# Altium integrated library Chip Resistor - Surface Mount.IntLib: 27 symbols
Pins are listed as number, name and electrical type; pins without a type are passive.

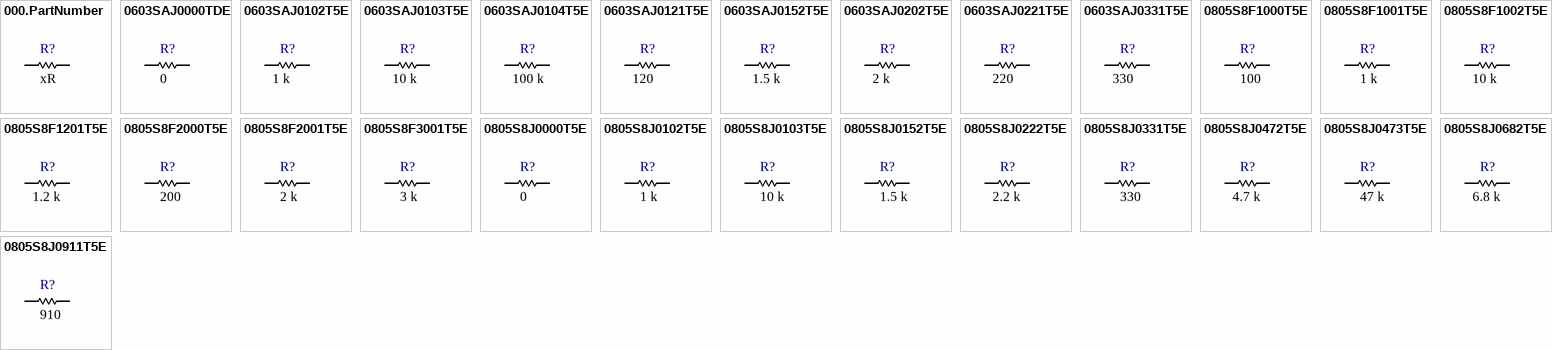
[diagram p0: symbols 000.PartNumber to 0805S8J0911T5E]

## 000.PartNumber
designator R?  Resistance: xR  (hidden comment: *)
Digikey Description; Manufacturer: *; Series: *; Package: *; Tolerance: *; Power (Watts): *; Composition: *; Features: *; Temperature Coefficient: *; Operating Temperature: *; Package / Case: *; Ratings: *; Supplier Device Package: *; Size / Dimension: *; Height - Seated (Max): *; Failure Rate: *; Number of Terminations: *; Ozdisan Link: *; Digikey Link: *; Farnell TR Link: *; Mouser Link: *
pins: 1, 2

## 0603SAJ0000TDE
designator R?  Resistance: 0  (hidden comment: *)
RES SMD 0 OHM 5% 1/10W 0603; Manufacturer: Royalohm; Power (Watts): 0.1W, 1/10W; Temperature Coefficient: ±800ppm/°C; Series: -; Package: Tape & Reel (TR); Tolerance: ±5%; Composition: Thick Film; Features: General Purpose; Operating Temperature: -55°C ~ 155°C; Package / Case: 0603 (1608 Metric); Ratings: -; Supplier Device Package: 0603; Size / Dimension: 0.063" L x 0.031" W (1.60mm x 0.80mm); Height - Seated (Max): 0.022" (0.55mm); Failure Rate: -; Number of Terminations: 2; Ozdisan Link: https://ozdisan.com/pasif-komponentler/direncler/smt-smd-ve-cip-direncler/0603SAJ0000TDE; Digikey Link: -; Farnell TR Link: -; Mouser Link: -
footprint ROYALOHM_RES_0603
pins: 1, 2

## 0603SAJ0102T5E
designator R?  Resistance: 1 k  (hidden comment: *)
RES SMD 1K OHM 5% 1/10W 0603; Manufacturer: Royalohm; Power (Watts): 0.1W, 1/10W; Temperature Coefficient: ±100ppm/°C; Series: -; Package: Tape & Reel (TR); Tolerance: ±5%; Composition: Thick Film; Features: General Purpose; Operating Temperature: -55°C ~ 155°C; Package / Case: 0603 (1608 Metric); Ratings: -; Supplier Device Package: 0603; Size / Dimension: 0.063" L x 0.031" W (1.60mm x 0.80mm); Height - Seated (Max): 0.022" (0.55mm); Failure Rate: -; Number of Terminations: 2; Ozdisan Link: https://ozdisan.com/pasif-komponentler/direncler/smt-smd-ve-cip-direncler/0603SAJ0102T5E; Digikey Link: -; Farnell TR Link: -; Mouser Link: -
footprint ROYALOHM_RES_0603
pins: 1, 2

## 0603SAJ0103T5E
designator R?  Resistance: 10 k  (hidden comment: *)
RES SMD 10K OHM 5% 1/10W 0603; Manufacturer: Royalohm; Power (Watts): 0.1W, 1/10W; Temperature Coefficient: ±100ppm/°C; Series: -; Package: Tape & Reel (TR); Tolerance: ±5%; Composition: Thick Film; Features: General Purpose; Operating Temperature: -55°C ~ 155°C; Package / Case: 0603 (1608 Metric); Ratings: -; Supplier Device Package: 0603; Size / Dimension: 0.063" L x 0.031" W (1.60mm x 0.80mm); Height - Seated (Max): 0.022" (0.55mm); Failure Rate: -; Number of Terminations: 2; Ozdisan Link: https://ozdisan.com/pasif-komponentler/direncler/smt-smd-ve-cip-direncler/0603SAJ0103T5E; Digikey Link: -; Farnell TR Link: -; Mouser Link: -
footprint ROYALOHM_RES_0603
pins: 1, 2

## 0603SAJ0104T5E
designator R?  Resistance: 100 k  (hidden comment: *)
RES SMD 100K OHM 5% 1/10W 0603; Manufacturer: Royalohm; Power (Watts): 0.1W, 1/10W; Temperature Coefficient: ±100ppm/°C; Series: -; Package: Tape & Reel (TR); Tolerance: ±5%; Composition: Thick Film; Features: General Purpose; Operating Temperature: -55°C ~ 155°C; Package / Case: 0603 (1608 Metric); Ratings: -; Supplier Device Package: 0603; Size / Dimension: 0.063" L x 0.031" W (1.60mm x 0.80mm); Height - Seated (Max): 0.022" (0.55mm); Failure Rate: -; Number of Terminations: 2; Ozdisan Link: https://www.digikey.com/en/products/detail/samsung-electro-mechanics/RC1608F2103CS/3965171; Digikey Link: -; Farnell TR Link: -; Mouser Link: -
footprint ROYALOHM_RES_0603
pins: 1, 2

## 0603SAJ0121T5E
designator R?  Resistance: 120  (hidden comment: *)
RES SMD 120R OHM 5% 1/10W 0603; Manufacturer: Royalohm; Power (Watts): 0.1W, 1/10W; Temperature Coefficient: ±100ppm/°C; Series: -; Package: Tape & Reel (TR); Tolerance: ±5%; Composition: Thick Film; Features: General Purpose; Operating Temperature: -55°C ~ 155°C; Package / Case: 0603 (1608 Metric); Ratings: -; Supplier Device Package: 0603; Size / Dimension: 0.063" L x 0.031" W (1.60mm x 0.80mm); Height - Seated (Max): 0.022" (0.55mm); Failure Rate: -; Number of Terminations: 2; Ozdisan Link: https://ozdisan.com/pasif-komponentler/direncler/smt-smd-ve-cip-direncler/0603SAJ0121T5E; Digikey Link: -; Farnell TR Link: -; Mouser Link: -
footprint ROYALOHM_RES_0603
pins: 1, 2

## 0603SAJ0152T5E
designator R?  Resistance: 1.5 k  (hidden comment: *)
RES SMD 1.5K OHM 5% 1/10W 0603; Manufacturer: Royalohm; Power (Watts): 0.1W, 1/10W; Temperature Coefficient: ±100ppm/°C; Series: -; Package: Tape & Reel (TR); Tolerance: ±5%; Composition: Thick Film; Features: General Purpose; Operating Temperature: -55°C ~ 155°C; Package / Case: 0603 (1608 Metric); Ratings: -; Supplier Device Package: 0603; Size / Dimension: 0.063" L x 0.031" W (1.60mm x 0.80mm); Height - Seated (Max): 0.022" (0.55mm); Failure Rate: -; Number of Terminations: 2; Ozdisan Link: https://ozdisan.com/pasif-komponentler/direncler/smt-smd-ve-cip-direncler/0603SAJ0152T5E; Digikey Link: -; Farnell TR Link: -; Mouser Link: -
footprint ROYALOHM_RES_0603
pins: 1, 2

## 0603SAJ0202T5E
designator R?  Resistance: 2 k  (hidden comment: *)
RES SMD 2K OHM 5% 1/10W 0603; Manufacturer: Royalohm; Power (Watts): 0.1W, 1/10W; Temperature Coefficient: ±100ppm/°C; Series: -; Package: Tape & Reel (TR); Tolerance: ±5%; Composition: Thick Film; Features: General Purpose; Operating Temperature: -55°C ~ 155°C; Package / Case: 0603 (1608 Metric); Ratings: -; Supplier Device Package: 0603; Size / Dimension: 0.063" L x 0.031" W (1.60mm x 0.80mm); Height - Seated (Max): 0.022" (0.55mm); Failure Rate: -; Number of Terminations: 2; Ozdisan Link: https://ozdisan.com/pasif-komponentler/direncler/smt-smd-ve-cip-direncler/0603SAJ0202T5E; Digikey Link: -; Farnell TR Link: -; Mouser Link: -
footprint ROYALOHM_RES_0603
pins: 1, 2

## 0603SAJ0221T5E
designator R?  Resistance: 220  (hidden comment: *)
RES SMD 220R OHM 5% 1/10W 0603; Manufacturer: Royalohm; Power (Watts): 0.1W, 1/10W; Temperature Coefficient: ±100ppm/°C; Series: -; Package: Tape & Reel (TR); Tolerance: ±5%; Composition: Thick Film; Features: General Purpose; Operating Temperature: -55°C ~ 155°C; Package / Case: 0603 (1608 Metric); Ratings: -; Supplier Device Package: 0603; Size / Dimension: 0.063" L x 0.031" W (1.60mm x 0.80mm); Height - Seated (Max): 0.022" (0.55mm); Failure Rate: -; Number of Terminations: 2; Ozdisan Link: https://ozdisan.com/pasif-komponentler/direncler/smt-smd-ve-cip-direncler/0603SAJ0221T5E; Digikey Link: -; Farnell TR Link: -; Mouser Link: -
footprint ROYALOHM_RES_0603
pins: 1, 2

## 0603SAJ0331T5E
designator R?  Resistance: 330  (hidden comment: *)
RES SMD 330R OHM 5% 1/10W 0603; Manufacturer: Royalohm; Power (Watts): 0.1W, 1/10W; Temperature Coefficient: ±100ppm/°C; Series: -; Package: Tape & Reel (TR); Tolerance: ±5%; Composition: Thick Film; Features: General Purpose; Operating Temperature: -55°C ~ 155°C; Package / Case: 0603 (1608 Metric); Ratings: -; Supplier Device Package: 0603; Size / Dimension: 0.063" L x 0.031" W (1.60mm x 0.80mm); Height - Seated (Max): 0.022" (0.55mm); Failure Rate: -; Number of Terminations: 2; Ozdisan Link: https://ozdisan.com/pasif-komponentler/direncler/smt-smd-ve-cip-direncler/0603SAJ0331T5E; Digikey Link: -; Farnell TR Link: -; Mouser Link: -
footprint ROYALOHM_RES_0603
pins: 1, 2

## 0805S8F1000T5E
designator R?  Resistance: 100  (hidden comment: *)
RES SMD 100R OHM 1% 1/8W 0805; Manufacturer: Royalohm; Power (Watts): 0.125W, 1/8W; Temperature Coefficient: ±100ppm/°C; Series: -; Package: Tape & Reel (TR); Tolerance: ±1%; Composition: Thick Film; Features: General Purpose; Operating Temperature: -55°C ~ 155°C; Package / Case: 0805 (2012 Metric); Ratings: -; Supplier Device Package: 0805; Size / Dimension: 0.079" L x 0.049" W (2.00mm x 1.25mm); Height - Seated (Max): 0.022" (0.55mm); Failure Rate: -; Number of Terminations: 2; Ozdisan Link: https://ozdisan.com/pasif-komponentler/direncler/smt-smd-ve-cip-direncler/0805S8F1000T5E; Digikey Link: -; Farnell TR Link: -; Mouser Link: -
footprint ROYALOHM_RES_0805
pins: 1, 2

## 0805S8F1001T5E
designator R?  Resistance: 1 k  (hidden comment: *)
RES SMD 1K OHM 1% 1/8W 0805; Manufacturer: Royalohm; Power (Watts): 0.125W, 1/8W; Temperature Coefficient: ±100ppm/°C; Series: -; Package: Tape & Reel (TR); Tolerance: ±1%; Composition: Thick Film; Features: General Purpose; Operating Temperature: -55°C ~ 155°C; Package / Case: 0805 (2012 Metric); Ratings: -; Supplier Device Package: 0805; Size / Dimension: 0.079" L x 0.049" W (2.00mm x 1.25mm); Height - Seated (Max): 0.022" (0.55mm); Failure Rate: -; Number of Terminations: 2; Ozdisan Link: https://ozdisan.com/pasif-komponentler/direncler/smt-smd-ve-cip-direncler/0805S8F1001T5E; Digikey Link: -; Farnell TR Link: -; Mouser Link: -
footprint ROYALOHM_RES_0805
pins: 1, 2

## 0805S8F1002T5E
designator R?  Resistance: 10 k  (hidden comment: *)
RES SMD 10K OHM 1% 1/8W 0805; Manufacturer: Royalohm; Power (Watts): 0.125W, 1/8W; Temperature Coefficient: ±100ppm/°C; Series: -; Package: Tape & Reel (TR); Tolerance: ±1%; Composition: Thick Film; Features: General Purpose; Operating Temperature: -55°C ~ 155°C; Package / Case: 0805 (2012 Metric); Ratings: -; Supplier Device Package: 0805; Size / Dimension: 0.079" L x 0.049" W (2.00mm x 1.25mm); Height - Seated (Max): 0.022" (0.55mm); Failure Rate: -; Number of Terminations: 2; Ozdisan Link: https://ozdisan.com/pasif-komponentler/direncler/smt-smd-ve-cip-direncler/0805S8F1002T5E; Digikey Link: -; Farnell TR Link: -; Mouser Link: -
footprint ROYALOHM_RES_0805
pins: 1, 2

## 0805S8F1201T5E
designator R?  Resistance: 1.2 k  (hidden comment: *)
RES SMD 1.2K OHM 1% 1/8W 0805; Manufacturer: Royalohm; Power (Watts): 0.125W, 1/8W; Temperature Coefficient: ±100ppm/°C; Series: -; Package: Tape & Reel (TR); Tolerance: ±1%; Composition: Thick Film; Features: General Purpose; Operating Temperature: -55°C ~ 155°C; Package / Case: 0805 (2012 Metric); Ratings: -; Supplier Device Package: 0805; Size / Dimension: 0.079" L x 0.049" W (2.00mm x 1.25mm); Height - Seated (Max): 0.022" (0.55mm); Failure Rate: -; Number of Terminations: 2; Ozdisan Link: https://ozdisan.com/pasif-komponentler/direncler/smt-smd-ve-cip-direncler/0805S8F1201T5E; Digikey Link: -; Farnell TR Link: -; Mouser Link: -
footprint ROYALOHM_RES_0805
pins: 1, 2

## 0805S8F2000T5E
designator R?  Resistance: 200  (hidden comment: *)
RES SMD 200R OHM 1% 1/8W 0805; Manufacturer: Royalohm; Power (Watts): 0.125W, 1/8W; Temperature Coefficient: ±100ppm/°C; Series: -; Package: Tape & Reel (TR); Tolerance: ±1%; Composition: Thick Film; Features: General Purpose; Operating Temperature: -55°C ~ 155°C; Package / Case: 0805 (2012 Metric); Ratings: -; Supplier Device Package: 0805; Size / Dimension: 0.079" L x 0.049" W (2.00mm x 1.25mm); Height - Seated (Max): 0.022" (0.55mm); Failure Rate: -; Number of Terminations: 2; Ozdisan Link: https://ozdisan.com/pasif-komponentler/direncler/smt-smd-ve-cip-direncler/0805S8F2000T5E; Digikey Link: -; Farnell TR Link: -; Mouser Link: -
footprint ROYALOHM_RES_0805
pins: 1, 2

## 0805S8F2001T5E
designator R?  Resistance: 2 k  (hidden comment: *)
RES SMD 2K OHM 1% 1/8W 0805; Manufacturer: Royalohm; Power (Watts): 0.125W, 1/8W; Temperature Coefficient: ±100ppm/°C; Series: -; Package: Tape & Reel (TR); Tolerance: ±1%; Composition: Thick Film; Features: General Purpose; Operating Temperature: -55°C ~ 155°C; Package / Case: 0805 (2012 Metric); Ratings: -; Supplier Device Package: 0805; Size / Dimension: 0.079" L x 0.049" W (2.00mm x 1.25mm); Height - Seated (Max): 0.022" (0.55mm); Failure Rate: -; Number of Terminations: 2; Ozdisan Link: https://ozdisan.com/pasif-komponentler/direncler/smt-smd-ve-cip-direncler/0805S8F2001T5E; Digikey Link: -; Farnell TR Link: -; Mouser Link: -
footprint ROYALOHM_RES_0805
pins: 1, 2

## 0805S8F3001T5E
designator R?  Resistance: 3 k  (hidden comment: *)
RES SMD 3K OHM 1% 1/8W 0805; Manufacturer: Royalohm; Power (Watts): 0.125W, 1/8W; Temperature Coefficient: ±100ppm/°C; Series: -; Package: Tape & Reel (TR); Tolerance: ±1%; Composition: Thick Film; Features: General Purpose; Operating Temperature: -55°C ~ 155°C; Package / Case: 0805 (2012 Metric); Ratings: -; Supplier Device Package: 0805; Size / Dimension: 0.079" L x 0.049" W (2.00mm x 1.25mm); Height - Seated (Max): 0.022" (0.55mm); Failure Rate: -; Number of Terminations: 2; Ozdisan Link: https://ozdisan.com/pasif-komponentler/direncler/smt-smd-ve-cip-direncler/0805S8F3001T5E; Digikey Link: -; Farnell TR Link: -; Mouser Link: -
footprint ROYALOHM_RES_0805
pins: 1, 2

## 0805S8J0000T5E
designator R?  Resistance: 0  (hidden comment: *)
RES SMD 0 OHM 5% 1/8W 0805; Manufacturer: Royalohm; Power (Watts): 0.125W, 1/8W; Temperature Coefficient: ±800ppm/°C; Series: -; Package: Tape & Reel (TR); Tolerance: ±5%; Composition: Thick Film; Features: General Purpose; Operating Temperature: -55°C ~ 155°C; Package / Case: 0805 (2012 Metric); Ratings: -; Supplier Device Package: 0805; Size / Dimension: 0.079" L x 0.049" W (2.00mm x 1.25mm); Height - Seated (Max): 0.022" (0.55mm); Failure Rate: -; Number of Terminations: 2; Ozdisan Link: https://ozdisan.com/pasif-komponentler/direncler/smt-smd-ve-cip-direncler/0805S8J0000T5E; Digikey Link: -; Farnell TR Link: -; Mouser Link: -
footprint ROYALOHM_RES_0805
pins: 1, 2

## 0805S8J0102T5E
designator R?  Resistance: 1 k  (hidden comment: *)
RES SMD 1K OHM 5% 1/8W 0805; Manufacturer: Royalohm; Power (Watts): 0.125W, 1/8W; Temperature Coefficient: ±100ppm/°C; Series: -; Package: Tape & Reel (TR); Tolerance: ±5%; Composition: Thick Film; Features: General Purpose; Operating Temperature: -55°C ~ 155°C; Package / Case: 0805 (2012 Metric); Ratings: -; Supplier Device Package: 0805; Size / Dimension: 0.079" L x 0.049" W (2.00mm x 1.25mm); Height - Seated (Max): 0.022" (0.55mm); Failure Rate: -; Number of Terminations: 2; Ozdisan Link: https://ozdisan.com/pasif-komponentler/direncler/smt-smd-ve-cip-direncler/0805S8J0102T5E; Digikey Link: -; Farnell TR Link: -; Mouser Link: -
footprint ROYALOHM_RES_0805
pins: 1, 2

## 0805S8J0103T5E
designator R?  Resistance: 10 k  (hidden comment: *)
RES SMD 10K OHM 5% 1/8W 0805; Manufacturer: Royalohm; Power (Watts): 0.125W, 1/8W; Temperature Coefficient: ±100ppm/°C; Series: -; Package: Tape & Reel (TR); Tolerance: ±5%; Composition: Thick Film; Features: General Purpose; Operating Temperature: -55°C ~ 155°C; Package / Case: 0805 (2012 Metric); Ratings: -; Supplier Device Package: 0805; Size / Dimension: 0.079" L x 0.049" W (2.00mm x 1.25mm); Height - Seated (Max): 0.022" (0.55mm); Failure Rate: -; Number of Terminations: 2; Ozdisan Link: https://ozdisan.com/pasif-komponentler/direncler/smt-smd-ve-cip-direncler/0805S8J0103T5E; Digikey Link: -; Farnell TR Link: -; Mouser Link: -
footprint ROYALOHM_RES_0805
pins: 1, 2

## 0805S8J0152T5E
designator R?  Resistance: 1.5 k  (hidden comment: *)
RES SMD 1.5K OHM 5% 1/8W 0805; Manufacturer: Royalohm; Power (Watts): 0.125W, 1/8W; Temperature Coefficient: ±100ppm/°C; Series: -; Package: Tape & Reel (TR); Tolerance: ±5%; Composition: Thick Film; Features: General Purpose; Operating Temperature: -55°C ~ 155°C; Package / Case: 0805 (2012 Metric); Ratings: -; Supplier Device Package: 0805; Size / Dimension: 0.079" L x 0.049" W (2.00mm x 1.25mm); Height - Seated (Max): 0.022" (0.55mm); Failure Rate: -; Number of Terminations: 2; Ozdisan Link: https://ozdisan.com/pasif-komponentler/direncler/smt-smd-ve-cip-direncler/0805S8J0152T5E; Digikey Link: -; Farnell TR Link: -; Mouser Link: -
footprint ROYALOHM_RES_0805
pins: 1, 2

## 0805S8J0222T5E
designator R?  Resistance: 2.2 k  (hidden comment: *)
RES SMD 2.2K OHM 5% 1/8W 0805; Manufacturer: Royalohm; Power (Watts): 0.125W, 1/8W; Temperature Coefficient: ±100ppm/°C; Series: -; Package: Tape & Reel (TR); Tolerance: ±5%; Composition: Thick Film; Features: General Purpose; Operating Temperature: -55°C ~ 155°C; Package / Case: 0805 (2012 Metric); Ratings: -; Supplier Device Package: 0805; Size / Dimension: 0.079" L x 0.049" W (2.00mm x 1.25mm); Height - Seated (Max): 0.022" (0.55mm); Failure Rate: -; Number of Terminations: 2; Ozdisan Link: https://ozdisan.com/pasif-komponentler/direncler/smt-smd-ve-cip-direncler/0805S8J0222T5E; Digikey Link: -; Farnell TR Link: -; Mouser Link: -
footprint ROYALOHM_RES_0805
pins: 1, 2

## 0805S8J0331T5E
designator R?  Resistance: 330  (hidden comment: *)
RES SMD 330R OHM 5% 1/8W 0805; Manufacturer: Royalohm; Power (Watts): 0.125W, 1/8W; Temperature Coefficient: ±100ppm/°C; Series: -; Package: Tape & Reel (TR); Tolerance: ±5%; Composition: Thick Film; Features: General Purpose; Operating Temperature: -55°C ~ 155°C; Package / Case: 0805 (2012 Metric); Ratings: -; Supplier Device Package: 0805; Size / Dimension: 0.079" L x 0.049" W (2.00mm x 1.25mm); Height - Seated (Max): 0.022" (0.55mm); Failure Rate: -; Number of Terminations: 2; Ozdisan Link: https://ozdisan.com/pasif-komponentler/direncler/smt-smd-ve-cip-direncler/0805S8J0331T5E; Digikey Link: -; Farnell TR Link: -; Mouser Link: -
footprint ROYALOHM_RES_0805
pins: 1, 2

## 0805S8J0472T5E
designator R?  Resistance: 4.7 k  (hidden comment: *)
RES SMD 4.7K OHM 5% 1/8W 0805; Manufacturer: Royalohm; Power (Watts): 0.125W, 1/8W; Temperature Coefficient: ±100ppm/°C; Series: -; Package: Tape & Reel (TR); Tolerance: ±5%; Composition: Thick Film; Features: General Purpose; Operating Temperature: -55°C ~ 155°C; Package / Case: 0805 (2012 Metric); Ratings: -; Supplier Device Package: 0805; Size / Dimension: 0.079" L x 0.049" W (2.00mm x 1.25mm); Height - Seated (Max): 0.022" (0.55mm); Failure Rate: -; Number of Terminations: 2; Ozdisan Link: https://ozdisan.com/pasif-komponentler/direncler/smt-smd-ve-cip-direncler/0805S8J0472T5E; Digikey Link: -; Farnell TR Link: -; Mouser Link: -
footprint ROYALOHM_RES_0805
pins: 1, 2

## 0805S8J0473T5E
designator R?  Resistance: 47 k  (hidden comment: *)
RES SMD 47K OHM 5% 1/8W 0805; Manufacturer: Royalohm; Power (Watts): 0.125W, 1/8W; Temperature Coefficient: ±100ppm/°C; Series: -; Package: Tape & Reel (TR); Tolerance: ±5%; Composition: Thick Film; Features: General Purpose; Operating Temperature: -55°C ~ 155°C; Package / Case: 0805 (2012 Metric); Ratings: -; Supplier Device Package: 0805; Size / Dimension: 0.079" L x 0.049" W (2.00mm x 1.25mm); Height - Seated (Max): 0.022" (0.55mm); Failure Rate: -; Number of Terminations: 2; Ozdisan Link: https://ozdisan.com/pasif-komponentler/direncler/smt-smd-ve-cip-direncler/0805S8J0473T5E; Digikey Link: -; Farnell TR Link: -; Mouser Link: -
footprint ROYALOHM_RES_0805
pins: 1, 2

## 0805S8J0682T5E
designator R?  Resistance: 6.8 k  (hidden comment: *)
RES SMD 6.8K OHM 5% 1/8W 0805; Manufacturer: Royalohm; Power (Watts): 0.125W, 1/8W; Temperature Coefficient: ±100ppm/°C; Series: -; Package: Tape & Reel (TR); Tolerance: ±5%; Composition: Thick Film; Features: General Purpose; Operating Temperature: -55°C ~ 155°C; Package / Case: 0805 (2012 Metric); Ratings: -; Supplier Device Package: 0805; Size / Dimension: 0.079" L x 0.049" W (2.00mm x 1.25mm); Height - Seated (Max): 0.022" (0.55mm); Failure Rate: -; Number of Terminations: 2; Ozdisan Link: https://ozdisan.com/pasif-komponentler/direncler/smt-smd-ve-cip-direncler/0805S8J0682T5E; Digikey Link: -; Farnell TR Link: -; Mouser Link: -
footprint ROYALOHM_RES_0805
pins: 1, 2

## 0805S8J0911T5E
designator R?  Resistance: 910  (hidden comment: *)
RES SMD 910R OHM 5% 1/8W 0805; Manufacturer: Royalohm; Power (Watts): 0.125W, 1/8W; Temperature Coefficient: ±100ppm/°C; Series: -; Package: Tape & Reel (TR); Tolerance: ±5%; Composition: Thick Film; Features: General Purpose; Operating Temperature: -55°C ~ 155°C; Package / Case: 0805 (2012 Metric); Ratings: -; Supplier Device Package: 0805; Size / Dimension: 0.079" L x 0.049" W (2.00mm x 1.25mm); Height - Seated (Max): 0.022" (0.55mm); Failure Rate: -; Number of Terminations: 2; Ozdisan Link: https://ozdisan.com/pasif-komponentler/direncler/smt-smd-ve-cip-direncler/0805S8J0911T5E; Digikey Link: -; Farnell TR Link: -; Mouser Link: -
footprint ROYALOHM_RES_0805
pins: 1, 2